# Altium footprint library AMPHENOL_GMSB0532112YEU.PcbLib: 1 footprints
Each footprint in its own frame and in the unit in brackets; x right, y up, seen from the top. Pads: shape width x height; smd on the part's side, far side on the other; paste and mask are expansions set on the pad; w line width, h text height; cw(c..) or ccw(c..) is an arc to the next point about the centre after c.
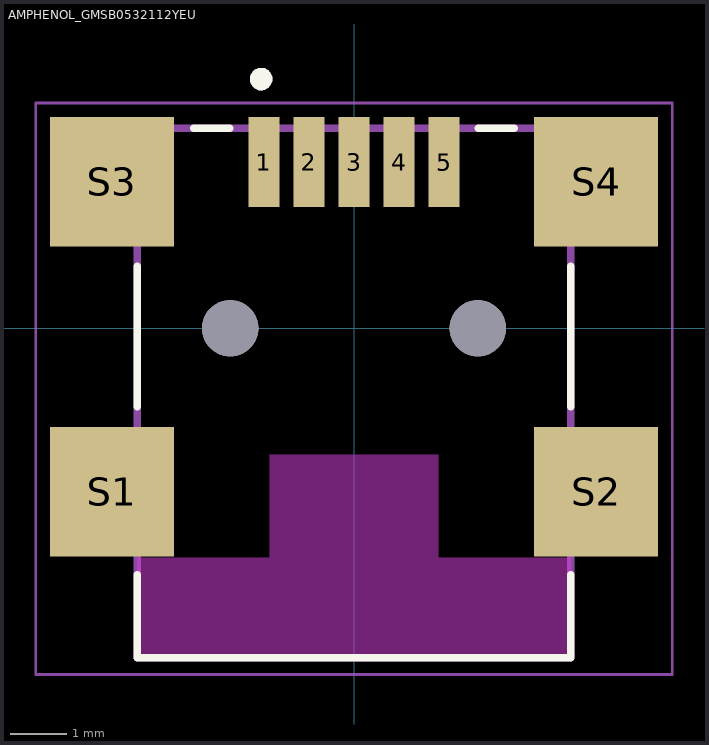
[diagram p0: the footprint, top view; thin cyan lines are the x and y axes]

## AMPHENOL_GMSB0532112YEU [mm]
height 3.9
pads (11):
  rect 0.55x1.6 smd: 1(-1.6,2.95) 2(-0.8,2.95) 3(0,2.95) 4(0.8,2.95) 5(1.6,2.95)
  rect 2.2x2.3 smd: S1(-4.3,-2.9) S2(4.3,-2.9) S3(-4.3,2.6) S4(4.3,2.6)
  round 1 hole 1 unplated: ""(-2.2,0) ""(2.2,0)
Top Overlay:
  circle w0.2: c-1.65,4.425 r0.1
  lines w0.127: -3.85,-4.378 -3.85,-5.85 3.85,-5.85 3.85,-4.378 ; -3.85,-1.4 -3.85,1.1 ; -2.85,3.55 -2.2,3.55 ; 2.2,3.55 2.85,3.55 ; 3.85,-1.4 3.85,1.1
Keep-Out Layer:
  region: 1.5,-4.075 3.85,-4.075 3.85,-5.9 -3.85,-5.9 -3.85,-4.075 -1.5,-4.075 -1.5,-2.25 1.5,-2.25
Mechanical 13:
  circle w0.2: c-1.65,4.425 r0.1
  lines w0.127: -3.85,-5.85 3.85,-5.85 3.85,3.55 -3.85,3.55 -3.85,-5.85
Mechanical 15:
  lines w0.05: -5.65,-6.15 -5.65,4 5.65,4 5.65,-6.15 -5.65,-6.15
3D body "step_temp.STEP": height 3.9, standoff -0.6, extent -4.964,-8.4 4.964,1